# Altium schematic symbol library ADP2302ARDZ-5.0-R7.SchLib: 1 symbol
Pins are listed as number, name and electrical type; pins without a type are passive.

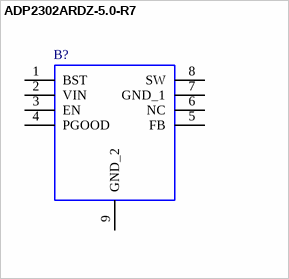
[diagram p0: symbol ADP2302ARDZ-5.0-R7]

## ADP2302ARDZ-5.0-R7
designator B?
Switching Voltage Regulators 2A 700KHz NonSync Step-Down; Manufacturer_Name: Analog Devices; Geometry.Height: 1.75mm; Mouser Part Number: 584-ADP2302ARDZ5.0R7; Mouser Price/Stock: https://www.mouser.co.uk/ProductDetail/Analog-Devices/ADP2302ARDZ-5.0-R7?qs=WIvQP4zGanhELCNRRyZF%252Bw%3D%3D; Manufacturer_Part_Number: ADP2302ARDZ-5.0-R7; Datasheet Link: *
footprint SOIC127P600X175-9N
pins: 1 BST, 2 VIN, 3 EN, 4 PGOOD, 5 FB, 6 NC, 7 GND_1, 8 SW, 9 GND_2